# EAGLE library part XR-2207 (library exar)
VOLTAGE CONTROLLED OSCILLATOR
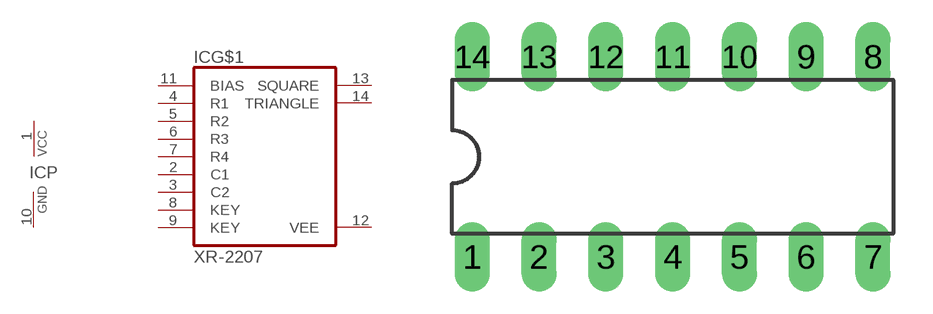
[diagram p1: symbol with the pads of DIL14; footprint DIL14]

Designator prefix IC; gates G$1=XR-2207 P=PWRN

## XR-2207  [DIL14]
1  P:VCC  pwr
2  G$1:C1  in
3  G$1:C2  in
4  G$1:R1  in
5  G$1:R2  in
6  G$1:R3  in
7  G$1:R4  in
8  G$1:KEY  in
9  G$1:KEY  in
10  P:GND  pwr
11  G$1:BIAS  in
12  G$1:VEE  pwr
13  G$1:SQUARE  out
14  G$1:TRIANGLE  out

## Footprint DIL14 (pad centres in mm)
Dual In Line Package
drill 0.813 long: 1 -7.62,-3.81; 2 -5.08,-3.81; 3 -2.54,-3.81; 4 0,-3.81; 5 2.54,-3.81; 6 5.08,-3.81; 7 7.62,-3.81; 8 7.62,3.81; 9 5.08,3.81; 10 2.54,3.81; 11 0,3.81; 12 -2.54,3.81; 13 -5.08,3.81; 14 -7.62,3.81